# Altium footprint library led.PcbLib: 3 footprints
Each footprint in its own frame and in the unit in brackets; x right, y up, seen from the top. Pads: shape width x height; smd on the part's side, far side on the other; paste and mask are expansions set on the pad; w line width, h text height; cw(c..) or ccw(c..) is an arc to the next point about the centre after c.
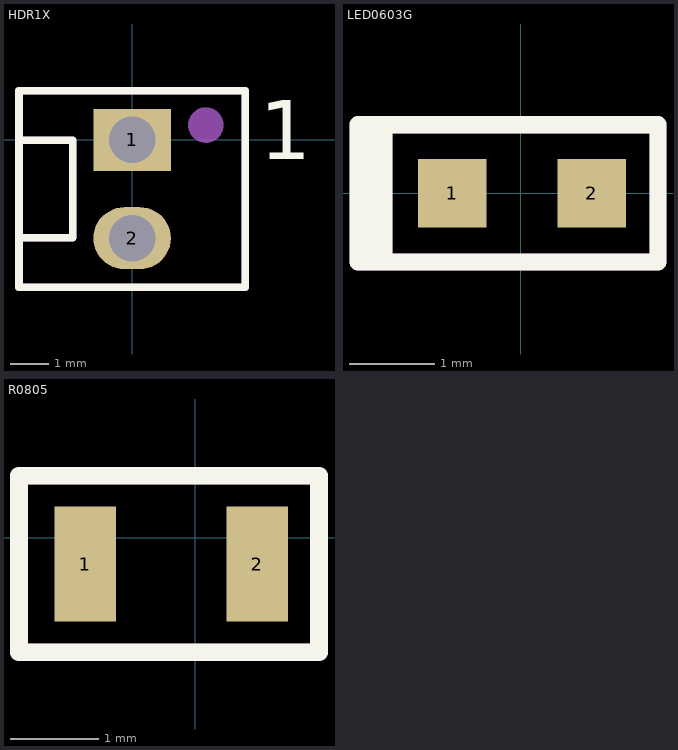
[diagram p0: the footprints below, top view; thin cyan lines are the x and y axes]

## HDR1X [mm]
pads (2):
  rect 2x1.6 hole 1.2: 1(0,0)
  oval 2x1.6 hole 1.2: 2(0,-2.54)
Top Overlay:
  lines w0.2: -2.921,-0.01 -1.534,-0.01 -1.534,-2.53 -2.796,-2.53 ; -2.921,-3.81 -2.921,1.27 2.921,1.27 2.921,-3.81 -2.921,-3.81
  text "1" at 3.302,-0.508 h1.52
Mechanical 2:
  circle w0.508: c1.905,0.381 r0.203
  lines w0.2: -2.921,-0.01 -1.534,-0.01 -1.534,-2.53 -2.796,-2.53 ; -2.921,-3.81 2.921,-3.81 2.921,1.27 -2.921,1.27 -2.921,-3.81
  text "'.Designator'" at -1.27,-1.397 h1.2
3D body "022232021.stp": height 10.68, standoff -3.54, extent -3.099,-3.734 3.251,1.194

## LED0603G [mm]
pads (2):
  rect 0.8x0.8 smd: 1(-0.8,0) 2(0.825,0)
Top Overlay:
  rectangle: -1.9,-0.8 -1.5,0.9
  lines w0.2: -1.9,-0.8 -1.9,0.8 1.6,0.8 1.6,-0.8 -1.9,-0.8
Mechanical 2:
  rectangle: -1.9,-0.8 -1.5,0.9
  lines w0.2: -1.9,-0.8 1.6,-0.8 1.6,0.8 -1.9,0.8 -1.9,-0.8
  text "'.Designator'" at -4,-1.2 h0.7
3D body "User Library-SMD LED 0603.step": height 0.4, standoff 0.01, extent -0.8,-0.4 0.8,0.4

## R0805 [mm]
pads (2):
  rect 0.7x1.3 smd: 1(-1.25,-0.3) 2(0.7,-0.3)
Top Overlay:
  lines w0.2: -2,-1.3 -2,0.7 1.4,0.7 1.4,-1.3 -2,-1.3
Mechanical 2:
  lines w0.2: -2,-1.3 1.4,-1.3 1.4,0.7 -2,0.7 -2,-1.3
  text "'.Designator'" at -3.5,-0.9 h0.7
3D body "User Library-CR2012-0805.step": height 0.61, standoff 0.01, extent -1.254,-0.889 0.746,0.361